# Altium footprint library Components - 27.09.24 - 08.55.PcbLib: 1 footprints
Each footprint in its own frame and in the unit in brackets; x right, y up, seen from the top. Pads: shape width x height; smd on the part's side, far side on the other; paste and mask are expansions set on the pad; w line width, h text height; cw(c..) or ccw(c..) is an arc to the next point about the centre after c.
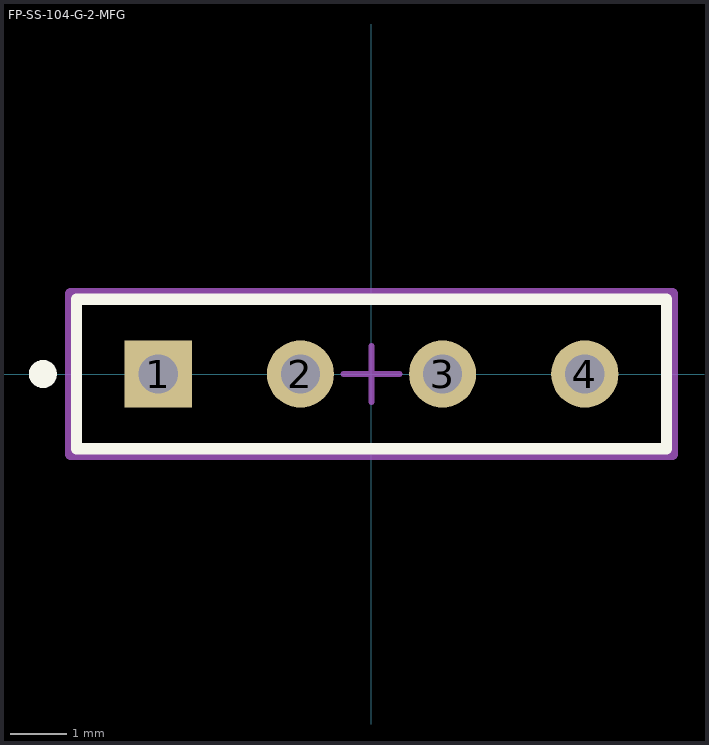
[diagram p0: the footprint, top view; thin cyan lines are the x and y axes]

## FP-SS-104-G-2-MFG [mm]
pads (4):
  rect 1.2x1.2 hole 0.7 paste-1000 mask+0: 1(-3.81,0)
  round 1.2 hole 0.7 paste-1000 mask+0: 2(-1.27,0) 3(1.27,0) 4(3.81,0)
Top Overlay:
  circle w0.25: c-5.87,0 r0.125
  lines w0.2: -5.27,-1.335 5.27,-1.335 5.27,1.335 -5.27,1.335 -5.27,-1.335
Mechanical 5:
  lines w0.2: -5.37,-1.435 5.37,-1.435 5.37,1.435 -5.37,1.435 -5.37,-1.435
  text ".Designator" at 0,0.187 h1
Mechanical 13:
  lines w0.2: -5.27,-1.335 5.27,-1.335 5.27,1.335 -5.27,1.335 -5.27,-1.335
Mechanical 15:
  lines w0.2: -5.37,-1.435 5.37,-1.435 5.37,1.435 -5.37,1.435 -5.37,-1.435
Mechanical 16:
  lines w0.1: -0.5,0 0.5,0 ; 0,-0.5 0,0.5
3D body "Conn_Samtec_SS-104-G-2_eec.STEP": height 0.25, standoff 0, extent -5.37,-1.435 5.37,1.435